# Altium schematic symbol library LDv6.1.SchLib: 14 symbols
Pins are listed as number, name and electrical type; pins without a type are passive.

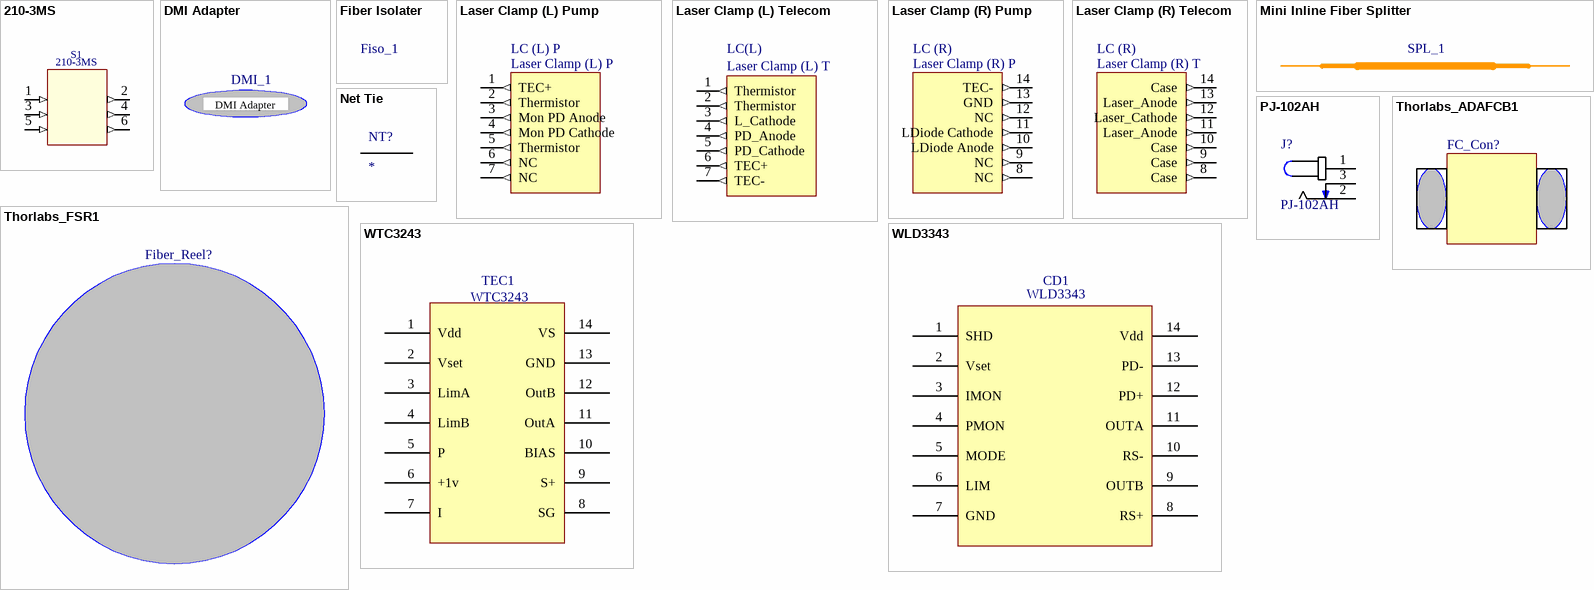
[diagram p0: symbols 210-3MS to WTC3243]

## 210-3MS
designator S1
3 Position Switch, TH; ComponentLink1Description: DataSheet; ComponentLink1URL: https://www.ctscorp.com/wp-content/uploads/209-210.pdf
footprint 210-3MS
pins: 1 (in) "IN_A", 2 (out) "OUT_A", 3 (in) "IN_B", 4 (out) "OUT_B", 5 (in) "IN_C", 6 (out) "OUT_C"

## DMI Adapter
designator DMI_1, comment F2F Fiber Adapter  (value not drawn)
footprint DMI_LargeHole

## Fiber Isolater
designator Fiso_1  (value not drawn)

## Laser Clamp (L) Pump
designator LC (L) P, comment Laser Clamp (L) P
footprint LaserClamp_L_Pump
pins: 1 TEC+ (out), 2 Thermistor (out), 3 Mon PD Anode (out), 4 Mon PD Cathode (out), 5 Thermistor (out), 6 NC (out), 7 NC (out)

## Laser Clamp (L) Telecom
designator LC(L), comment Laser Clamp (L) T
ComponentLink1Description: Data Sheet; ComponentLink1URL: http://www.azimuth-electronics.com/pdf/E5SH3%20-%205253_5254%20Series.pdf
footprint LaserClamp_L_Telecom
pins: 1 Thermistor (out), 2 Thermistor (out), 3 L_Cathode (out), 4 PD_Anode (out), 5 PD_Cathode (out), 6 TEC+ (out), 7 TEC- (out)

## Laser Clamp (R) Pump
designator LC (R), comment Laser Clamp (R) P
footprint LaserClamp_R_Pump
pins: 8 NC (out), 9 NC (out), 10 LDiode Anode (out), 11 LDiode Cathode (out), 12 NC (out), 13 GND (out), 14 TEC- (out)

## Laser Clamp (R) Telecom
designator LC (R), comment Laser Clamp (R) T
ComponentLink1Description: Data Sheet; ComponentLink1URL: http://www.azimuth-electronics.com/pdf/E5SH3%20-%205253_5254%20Series.pdf
footprint Laser Clamp_R_Telecom
pins: 8 Case (out), 9 Case (out), 10 Case (out), 11 Laser_Anode (out), 12 Laser_Cathode (out), 13 Laser_Anode (out), 14 Case (out)

## Mini Inline Fiber Splitter
designator SPL_1  (value not drawn)
OzOptics; ComponentLink1Description: Data Sheet; ComponentLink1URL: https://www.ozoptics.com/ALLNEW_PDF/DTS0091.pdf

## Net Tie
designator NT?  (net tie, no BOM)
footprint Net Tie
pins: ?1, ?2

## PJ-102AH
designator J?
Value: *
footprint *CUI_PJ-102AH
pins: 1, 2, 3

## Thorlabs_ADAFCB1
designator FC_Con?  (value not drawn)
ComponentLink1Description: ThorLabs ADAFCB1; ComponentLink1URL: https://www.thorlabs.com/thorproduct.cfm?partnumber=ADAFCB1
footprint Thorlabs_ADAFCB1

## Thorlabs_FSR1
designator Fiber_Reel?  (value not drawn)
ComponentLink1Description: ThorLabs FSR1; ComponentLink1URL: https://www.thorlabs.com/thorproduct.cfm?partnumber=FSR1
footprint Thorlabs_FSR1

## WLD3343
designator CD1
Laser Current Driver; ComponentLink1Description: Supplier Link; ComponentLink1URL: https://www.teamwavelength.com/product/wld3343-2-2-a-laser-diode-driver/; ComponentLink2Description: Data Sheet; ComponentLink2URL: https://www.teamwavelength.com/product/wld3343-2-2-a-laser-diode-driver/
footprint WLD3343 (Footprint not found)
pins: 1 SHD "Shutdown Laser Diode Output Current", 2 Vset "Setpoint Voltage Input", 3 IMON "Laser Diode Current Monitor", 4 PMON "Photodiode Current Monitor", 5 MODE "Mode Config", 6 LIM "Laser Diode Current Limit", 7 GND "Power Supp GND", 8 RS+ "Laser Diode Current Sense Resistor + Input", 9 OUTB "Output B", 10 RS- "Laser Diode Current Sense Resistor - Input", 11 OUTA "Output A", 12 PD+ "Photodiode Current Sense Resistor + Input", 13 PD- "Photodiode Current Sense Resistor - Input", 14 Vdd "Power Supp Input"

## WTC3243
designator TEC1
TEC; ComponentLink1Description: Distributor; ComponentLink1URL: https://www.teamwavelength.com/product/wld3343-2-2-a-laser-diode-driver/; ComponentLink2Description: Data Sheet; ComponentLink2URL: https://www.teamwavelength.com/download/Datasheets/WLD3343.pdf
footprint WTC3243 (TEC)
pins: 1 Vdd "Control Electronics Supply Input", 2 Vset "Voltage Setpoint", 3 LimA "Limit A", 4 LimB "Limit B", 5 P "Proportional Gain Resistor Connection", 6 +1v "+1 Volt Reference", 7 I "Integrator Time Constant Resistor Connection", 8 SG "Sensor Gain Resistor Connection", 9 S+ "Sensor Connection & Activve Temp Monitor", 10 BIAS "Sensor Bias Current Resistor Connection", 11 OutA "Thermoelectric Output A", 12 OutB "Thermoelectric Output B", 13 GND "Ground", 14 VS "Power Drive Supply Input"